# Altium schematic symbol library Trans_Sharp_PC817X1J000F_eec.SchLib: 1 symbol
Pins are listed as number, name and electrical type; pins without a type are passive.

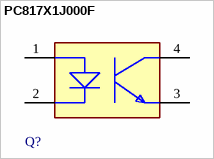
[diagram p0: symbol PC817X1J000F]

## PC817X1J000F
designator Q?  (value not drawn)
pins: 1 A, 2 C, 3 E, 4 C